# Altium schematic symbol library Si473x.SchLib: 2 symbols
Pins are listed as number, name and electrical type; pins without a type are passive.

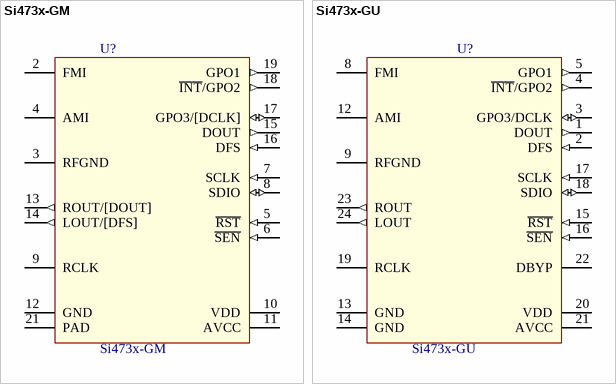
[diagram p0: symbols Si473x-GM to Si473x-GU]

## Si473x-GM
designator U?
BROADCAST AM/FM/SW/LW RADIO RECEIVER; Value: Si473x-GM
footprint PQFN-20 (PQFN, 20-Leads, Body 3,00x3,00mm, Pitch 0,50mm, IPC Medium Density)
pins: 2 FMI "FM RF inputs. FMI should be connected to the antenna trace.", 3 RFGND (power) "RF ground. Connect to ground plane on PCB.", 4 AMI "AM/SW/LW RF input.", 5 ~{RST} (in) "Device reset input", 6 ~{SEN} (in) "Serial enable input", 7 SCLK (in), 8 SDIO (io), 9 RCLK "External reference oscillator input.", 10 VDD (power) "Digital and I/O supply voltage.", 11 AVCC (power) "Analog supply voltage. May be connected directly to battery.", 12 GND (power) "Ground. Connect to ground plane on PCB.", 13 ROUT/[DOUT] (out) "Right audio line output in analog output mode.", 14 LOUT/[DFS] (out) "Left audio line output in analog output mode.", 15 DOUT (out), 16 DFS (in) "Digital frame synchronization input for digital output mode", 17 GPO3/[DCLK] (io), 18 ~{INT}/GPO2 (out) "Bypass capacitor", 19 GPO1 (out) "General purpose output.", 21 PAD (power) "Ground. Connect to ground plane on PCB."

## Si473x-GU
designator U?
BROADCAST AM/FM/SW/LW RADIO RECEIVER; Value: Si473x-GU
footprint SSOP-24 (SSOP, 24-Leads, Body 8,65x3,90mm, Pitch 0,64mm, IPC Medium Density)
pins: 1 DOUT (out) "Digital output data for digital output mode.", 2 DFS (in) "Digital frame synchronization input for digital output mode", 3 GPO3/DCLK (io) "General purpose output, crystal oscillator, or digital bit synchronous clock input  in digital output mode.", 4 ~{INT}/GPO2 (out), 5 GPO1 (out), 8 FMI "FM RF inputs. FMI should be connected to the antenna trace.", 9 RFGND (power) "RF ground. Connect to ground plane on PCB.", 12 AMI "AM/SW/LW RF input.", 13 GND (power) "Ground. Connect to ground plane on PCB.", 14 GND (power) "Ground. Connect to ground plane on PCB.", 15 ~{RST} (in) "Device reset input", 16 ~{SEN} (in) "Serial enable input", 17 SCLK (in), 18 SDIO (io), 19 RCLK "External reference oscillator input.", 20 VDD (power) "Digital and I/O supply voltage.", 21 AVCC (power) "Analog supply voltage. May be connected directly to battery.", 22 DBYP "Bypass capacitor", 23 ROUT (out) "Right audio line output in analog output mode.", 24 LOUT (out) "Left audio line output in analog output mode."